# EAGLE library part LT3518 (library lt3518)
Full-Featured LED Driver with 2.3A Switch Current
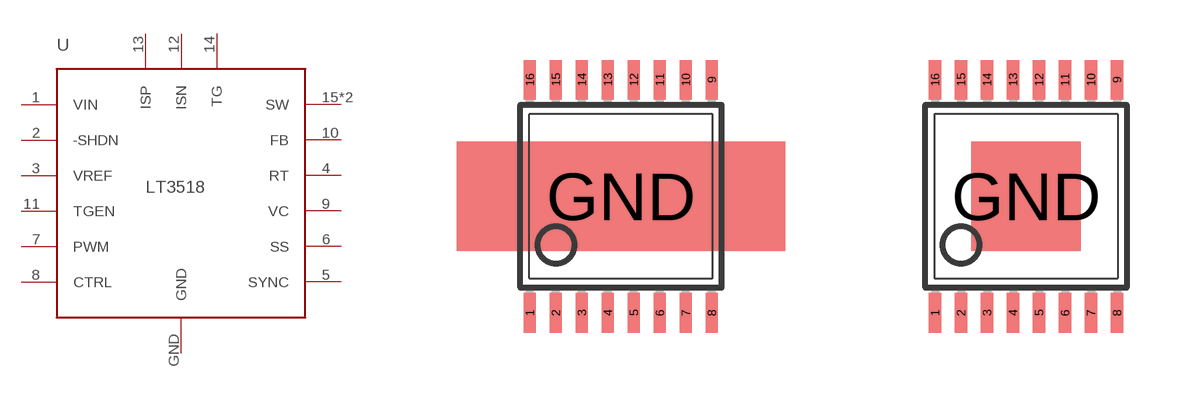
[diagram p0: symbol with the pads of TSSOP16-EXPOSED_PAD_LARGE; footprints TSSOP16-EXPOSED_PAD_LARGE, TSSOP16-EXPOSED_PAD_MINIMAL]

Designator prefix -

## LT3518TSSOP16-EXPOSED-PAD-LARGE  [TSSOP16-EXPOSED_PAD_LARGE]
1  VIN
2  -SHDN
3  VREF
4  RT
5  SYNC
6  SS
7  PWM
8  CTRL
9  VC
10  FB
11  TGEN
12  ISN
13  ISP
14  TG
15  SW
16  SW
GND  GND

## LT3518TSSOP16-EXPOSED-PAD-MINIMAL  [TSSOP16-EXPOSED_PAD_MINIMAL]
Pads as for TSSOP16-EXPOSED_PAD_LARGE

## Footprint TSSOP16-EXPOSED_PAD_LARGE (pad centres in mm)
Thin Shrink Small Outline Plastic 16 MAX3223-MAX3243.pdf
smd 0.305 x 0.991: 1 -2.275,-2.918; 2 -1.625,-2.918; 3 -0.975,-2.918; 4 -0.325,-2.918; 5 0.325,-2.918; 6 0.975,-2.918; 7 1.625,-2.918; 8 2.275,-2.918; 9 2.275,2.918; 10 1.625,2.918; 11 0.975,2.918; 12 0.325,2.918; 13 -0.325,2.918; 14 -0.975,2.918; 15 -1.625,2.918; 16 -2.275,2.918
smd 8.22 x 2.74: GND 0,0

## Footprint TSSOP16-EXPOSED_PAD_MINIMAL (pad centres in mm)
Thin Shrink Small Outline Plastic 16 MAX3223-MAX3243.pdf
smd 0.305 x 0.991: 1 -2.275,-2.918; 2 -1.625,-2.918; 3 -0.975,-2.918; 4 -0.325,-2.918; 5 0.325,-2.918; 6 0.975,-2.918; 7 1.625,-2.918; 8 2.275,-2.918; 9 2.275,2.918; 10 1.625,2.918; 11 0.975,2.918; 12 0.325,2.918; 13 -0.325,2.918; 14 -0.975,2.918; 15 -1.625,2.918; 16 -2.275,2.918
smd 2.74 x 2.74: GND 0,0